# Altium footprint library 12P_PCB_ScrewTerm_90S_3.81MM.PcbLib: 1 footprints
Each footprint in its own frame and in the unit in brackets; x right, y up, seen from the top. Pads: shape width x height; smd on the part's side, far side on the other; paste and mask are expansions set on the pad; w line width, h text height; cw(c..) or ccw(c..) is an arc to the next point about the centre after c.
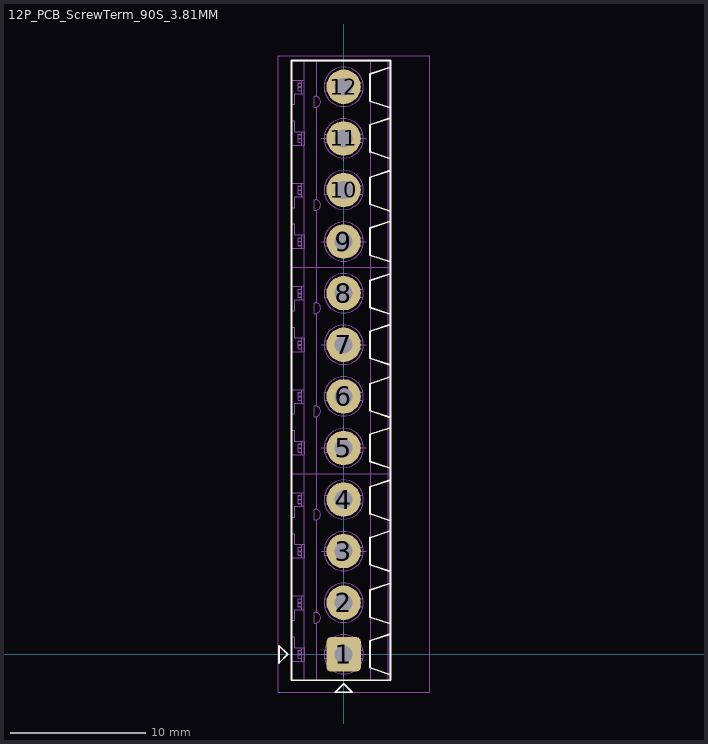
[diagram p0: the footprint, top view; thin cyan lines are the x and y axes]

## 12P_PCB_ScrewTerm_90S_3.81MM [mil]
pads (12):
  rrect25% 100x100 hole 52: 1(0,0)
  round 100 hole 52: 2(0,150) 3(0,300) 4(0,450) 5(0,600) 6(0,750) 7(0,900) 8(0,1050) 9(0,1200) 10(0,1350) 11(0,1500) 12(0,1650)
Top Overlay:
  lines w5: -151.57,225 -151.57,526.38 ; -151.57,226.38 -151.57,-75 135.83,-75 135.83,226.38 ; -151.57,525 -151.57,826.38 ; -151.57,825 -151.57,1126.38 ; -151.57,1125 -151.57,1426.38 ; -151.57,1425 -151.57,1726.38 135.83,1726.38 135.83,1425 ; 135.83,-59.06 76.78,-39.37 76.78,39.37 135.83,59.06 ; 135.83,88.58 76.78,108.27 76.78,187.01 135.83,206.69 ; 135.83,225 135.83,526.38 ; 135.83,240.94 76.78,260.63 76.78,339.37 135.83,359.06 ; 135.83,388.58 76.78,408.27 76.78,487.01 135.83,506.69 ; 135.83,525 135.83,826.38 ; 135.83,540.94 76.78,560.63 76.78,639.37 135.83,659.06 ; 135.83,688.58 76.78,708.27 76.78,787.01 135.83,806.69 ; 135.83,825 135.83,1126.38 ; 135.83,840.94 76.78,860.63 76.78,939.37 135.83,959.06 ; 135.83,988.58 76.78,1008.27 76.78,1087.01 135.83,1106.69 ; 135.83,1125 135.83,1426.38 ; 135.83,1140.94 76.78,1160.63 76.78,1239.37 135.83,1259.06 ; 135.83,1288.58 76.78,1308.27 76.78,1387.01 135.83,1406.69 ; 135.83,1440.94 76.78,1460.63 76.78,1539.37 135.83,1559.06 ; 135.83,1588.58 76.78,1608.27 76.78,1687.01 135.83,1706.69 ; -188,-25 -163,0 -188,25 -188,-25 ; -25,-110 25,-110 0,-85 -25,-110
Mechanical 13:
  drawing of 265 lines, arcs and shapes, not listed
Mechanical 15:
  lines w3: -65,0 65,0 ; -65,300 65,300 ; -65,600 65,600 ; -65,900 65,900 ; -65,1200 65,1200 ; -65,1500 65,1500 ; 0,-65 0,65 ; 0,235 0,365 ; 0,535 0,665 ; 0,835 0,965 ; 0,1135 0,1265 ; 0,1435 0,1565 ; -190,-110 250,-110 250,1740 -190,1740 -190,-110
3D body: height 334.65, standoff -137.8, extent -151.57,224.81 135.83,524.81
3D body: height 334.65, standoff -137.8, extent -151.57,-75.19 135.83,224.81
3D body: height 334.65, standoff -137.8, extent -151.57,524.81 135.83,824.81
3D body: height 334.65, standoff -137.8, extent -151.57,824.81 135.83,1124.81
3D body: height 334.65, standoff -137.8, extent -151.57,1424.81 135.83,1724.81
3D body: height 334.65, standoff -137.8, extent -148.7,1125 138.7,1425